# Altium footprint library L5.PcbLib: 5 footprints
Each footprint in its own frame and in the unit in brackets; x right, y up, seen from the top. Pads: shape width x height; smd on the part's side, far side on the other; paste and mask are expansions set on the pad; w line width, h text height; cw(c..) or ccw(c..) is an arc to the next point about the centre after c.
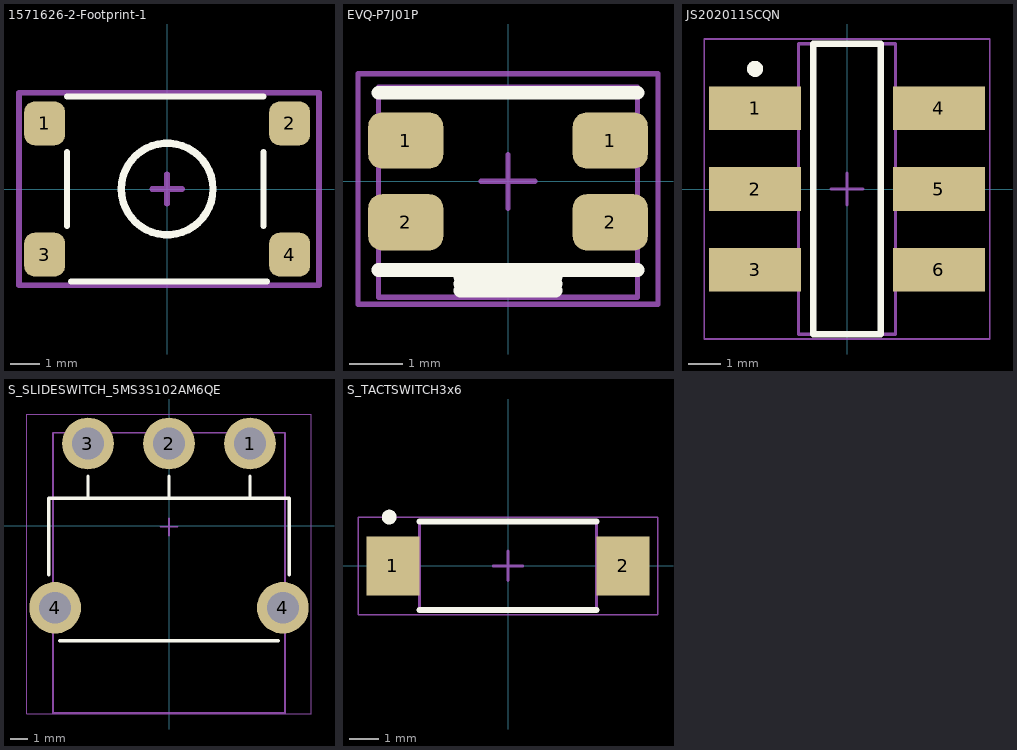
[diagram p0: the footprints below, top view; thin cyan lines are the x and y axes]

## 1571626-2-Footprint-1 [mm]
pads (4):
  rrect50% 1.4x1.5 smd: 1(-4.2,2.25) 2(4.2,2.25) 3(-4.2,-2.25) 4(4.2,-2.25)
Top Overlay:
  circle w0.254: c0,0 r1.571
  lines w0.2: -3.429,-1.27 -3.429,1.27 ; -3.429,3.175 3.302,3.175 ; -3.302,-3.175 3.429,-3.175 ; 3.302,-1.27 3.302,1.27
Mechanical 15:
  lines w0.2: -4.953,-3.302 -5.08,-3.302 ; -0.508,0 0,0 ; 0,-0.508 0,0 ; 0,0.508 0,0 ; 0.508,0 0,0 ; -5.08,-3.302 -5.08,3.302 5.207,3.302 5.207,-3.302 -5.08,-3.302
Mechanical 17:
  text "'.Designator'" at -4.318,-0.127 h0.8
3D body "User Library-222CMVABR.STEP": height 2.5, standoff 0, extent -4,-3.2 4,3.2

## EVQ-P7J01P [mm]
pads (4):
  rrect50% 1.4x1.05 smd: 1(-1.905,0.762) 1(1.905,0.762) 2(-1.905,-0.762) 2(1.905,-0.762)
Top Overlay:
  lines w0.254: -2.413,-1.651 2.413,-1.651 ; -2.413,1.651 2.413,1.651 ; -0.889,-2.032 0,-2.032 0.889,-2.032 ; -0.889,-1.905 0,-1.905 0.889,-1.905 ; -0.889,-1.778 0,-1.778 0.889,-1.778
Mechanical 2:
  lines w0.1: -2.413,-2.159 2.413,-2.159 2.413,1.754 -2.413,1.754 -2.413,-2.159
Mechanical 4:
  lines w0.1: -0.5,0 0.5,0 ; 0,-0.5 0,0.5 ; -2.794,-2.286 2.794,-2.286 2.794,2.004 -2.794,2.004 -2.794,-2.286
3D body "EVQP7-JA-01P.STEP": height 1.35, standoff 0, extent -2.35,-2.1 2.35,1.45

## JS202011SCQN [mm] "JS202011SCQN"
height 3.5
pads (6):
  rect 2.85x1.35 smd: 1(-2.85,2.5) 2(-2.85,0) 3(-2.85,-2.5) 4(2.85,2.5) 5(2.85,0) 6(2.85,-2.5)
Top Overlay:
  circle w0.25: c-2.85,3.725 r0.125
  lines w0.2: -1.05,-4.5 1.05,-4.5 1.05,4.5 -1.05,4.5 -1.05,-4.5
Mechanical 13:
  lines w0.1: -1.5,-4.5 -1.5,4.5 1.5,4.5 1.5,-4.5 -1.5,-4.5
Mechanical 15:
  lines w0.05: -4.425,-4.65 -4.425,4.65 4.425,4.65 4.425,-4.65 -4.425,-4.65
  lines w0.1: -0.5,0 0.5,0 ; 0,-0.5 0,0.5
3D body "js202011scqn.stp": height 5.22, standoff -0.28, extent -3.725,-4.555 3.775,4.445

## S_SLIDESWITCH_5MS3S102AM6QE [mm]
pads (5):
  round 3 hole 1.85: 1(4.699,4.763) 2(0,4.763) 3(-4.699,4.763) 4(-6.604,-4.763) 4(6.604,-4.763)
Top Overlay:
  lines w0.2: -6.985,-2.857 -6.985,1.587 6.985,1.587 6.985,-2.857 ; -6.35,-6.667 6.35,-6.667 ; -4.699,1.587 -4.699,2.857 ; 0,1.587 0,2.857 ; 4.699,1.587 4.699,2.857
Mechanical 13:
  lines w0.1: -6.731,-10.858 6.731,-10.858 6.731,5.397 -6.731,5.397 -6.731,-10.858
Mechanical 15:
  lines w0.05: -8.255,-10.922 8.255,-10.922 8.255,6.477 -8.255,6.477 -8.255,-10.922
  lines w0.1: -0.5,-0.064 0.5,-0.064 ; 0,-0.563 0,0.436
Mechanical 17:
  text ".Designator" at -5.08,-1.905 h1.27
Mechanical 19:
  text ".Comment" at -5.08,-1.905 h1.27
3D body "User Library-1101M2S3ABE2.step": height 6.6, standoff -3.17, extent -6.706,-10.843 6.706,5.397

## S_TACTSWITCH3x6 [mm] "SODFL, 2-Leads, Body 3,00x8,00mm, IPC Medium Density"
height 3
pads (2):
  rect 1.8x2 smd: 1(-3.9,0) 2(3.9,0)
Top Overlay:
  circle w0.25: c-4.025,1.65 r0.125
  lines w0.2: -3,-1.5 3,-1.5 ; -3,1.5 3,1.5
Mechanical 13:
  lines w0.1: -3,-1.5 3,-1.5 3,1.5 -3,1.5 -3,-1.5
Mechanical 15:
  lines w0.05: -5.08,-1.65 5.08,-1.65 5.08,1.65 -5.08,1.65 -5.08,-1.65
  lines w0.1: -0.5,0 0.5,0 ; 0,-0.5 0,0.5
Mechanical 17:
  text "'.Designator'" at -3.302,-1.27 h0.64
Mechanical 19:
  text "'.Comment'" at -3.302,-1.27 h0.64
3D body "User Library-Tact switch 1181_2.step": height 2.6, standoff 0, extent -4,-1.8 4,1.8